# EAGLE library part GRISP-BASE_SPI1 (library m_som)
GRiSP-base SPI1 Port Breakout Used to connect to GRiSP-base SPI1 port with flexible wires
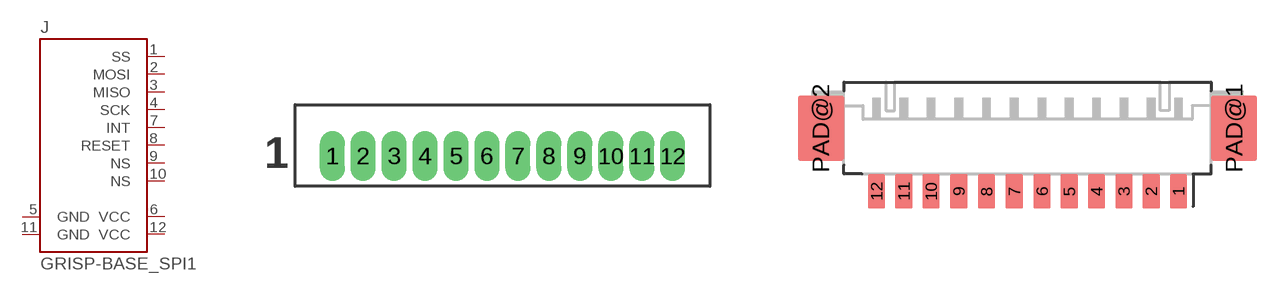
[diagram p3: symbol with the pads of MOLEX_53047-1210; footprints MOLEX_53047-1210, MOLEX_53261-1271]

Designator prefix J

## GRISP-BASE_SPI1MOLEX-PICOBLADE (MANUF: Molex; PARTNUM: 53047-1210; VALUE: GRiSP-SPI1)  [MOLEX_53047-1210]
1  SS  pas
2  MOSI  pas
3  MISO  pas
4  SCK  pas
5  GND  pas
6  VCC  pas
7  INT  pas
8  RESET  pas
9  NS  pas
10  NS  pas
11  GND  pas
12  VCC  pas

## GRISP-BASE_SPI1MOLEX-PICOBLADE_SMT_HORIZONTAL (MANUF: Molex; PARTNUM: 53261-1271; VALUE: GRiSP-SPI1)  [MOLEX_53261-1271]
Pads as for MOLEX_53047-1210

## GRISP-BASE_SPI1MOLEX-PICOBLADE_SMT_VERTICAL (MANUF: Molex; PARTNUM: 53398-1271; VALUE: GRiSP-SPI1)  [MOLEX_53398-1271]
Pads as for MOLEX_53047-1210

## Footprint MOLEX_53047-1210 (pad centres in mm)
Molex 53047 Series, 1.25mm Pitch, 12 Conductor Molex 1.25mm pitch through hole connector. Pre tinned phosphor bronze pins, mates with 51021 series.
drill 0.5 long: 1 -6.875,0; 2 -5.625,0; 3 -4.375,0; 4 -3.125,0; 5 -1.875,0; 6 -0.625,0; 7 0.625,0; 8 1.875,0; 9 3.125,0; 10 4.375,0; 11 5.625,0; 12 6.875,0

## Footprint MOLEX_53261-1271 (pad centres in mm)
Molex 53261 Series PicoBlade, 1.25mm Pitch, Right Angle, SMT, 12 Conductor Molex 1.25mm pitch right angle SMT connector. Pre tinned phosphor bronze pins, mates with 51021 series.
smd 0.8 x 1.6: 1 6.915,-0.8; 2 5.665,-0.8; 3 4.415,-0.8; 4 3.165,-0.8; 5 1.915,-0.8; 6 0.665,-0.8; 7 -0.605,-0.8; 8 -1.875,-0.8; 9 -3.145,-0.8; 10 -4.415,-0.8; 11 -5.665,-0.8; 12 -6.915,-0.8
smd 2.1 x 3: PAD@1 9.465,2.1; PAD@2 -9.465,2.1

## Footprint MOLEX_53398-1271 (pad centres in mm)
Molex 53398 Series PicoBlade, 1.25mm Pitch, Vertical, SMT, 12 Conductor Molex 1.25mm pitch vertical SMT connector. Pre tinned phosphor bronze pins, mates with 51021 series.
smd 0.8 x 1.3: 1 6.875,-0.65; 2 5.625,-0.65; 3 4.375,-0.65; 4 3.125,-0.65; 5 1.875,-0.65; 6 0.625,-0.65; 7 -0.625,-0.65; 8 -1.875,-0.65; 9 -3.125,-0.65; 10 -4.375,-0.65; 11 -5.625,-0.65; 12 -6.875,-0.65
smd 2.1 x 3: PAD@1 9.425,2.1; PAD@2 -9.425,2.1